# Altium schematic symbol library FDN304P.SchLib: 1 symbol
Pins are listed as number, name and electrical type; pins without a type are passive.

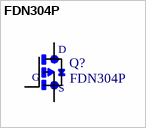
[diagram p0: symbol FDN304P]

## FDN304P
designator Q?
P-Channel 20 V 52 mOhm 1.8V Surface Mount Specified PowerTrench Mosfet SSOT-3; MF: ON Semiconductor; Package: SC-59 ON Semiconductor; MP: FDN304P; Price: None; SnapEDA_Link: https://www.snapeda.com/parts/FDN304P/ON%20Semiconductor/view-part/?ref=snap; Availability: Unavailable; Value: *
footprint *SSOT-3
pins: 1 G, 2 S, 3 D